# EAGLE library part RE46C190 (library MAÑE)
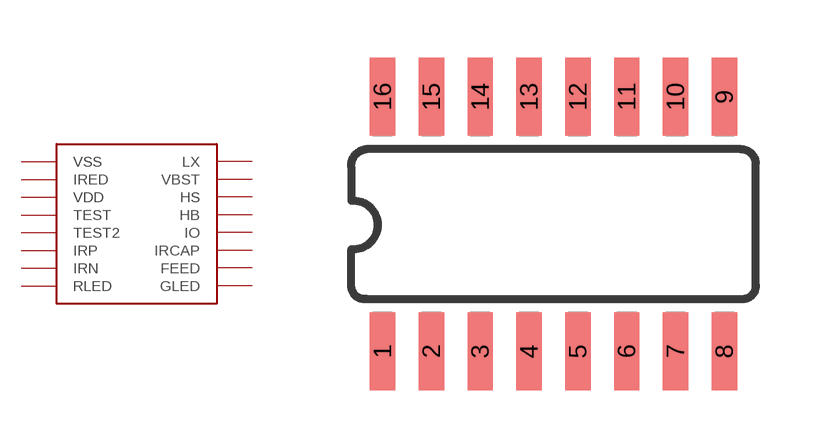
[diagram p3: symbol with the pads of SOIC16; footprint SOIC16]

Designator prefix -

## RE46C190SMOKE_DETECTOR  [SOIC16]
1  VSS
2  IRED
3  VDD
4  TEST
5  TEST2
6  IRP
7  IRN
8  RLED
9  GLED
10  FEED
11  IRCAP
12  IO
13  HB
14  HS
15  VBST
16  LX

## Footprint SOIC16 (pad centres in mm)
smd 0.66 x 2.032: 1 -5.145,-3.285; 2 -3.875,-3.285; 3 -2.605,-3.285; 4 -1.335,-3.285; 5 -0.065,-3.285; 6 1.205,-3.285; 7 2.475,-3.285; 8 3.745,-3.285; 9 3.745,3.345; 10 2.475,3.345; 11 1.205,3.345; 12 -0.065,3.345; 13 -1.335,3.345; 14 -2.605,3.345; 15 -3.875,3.345; 16 -5.145,3.345